# Altium footprint library SOP_20.PcbLib: 3 footprints
Each footprint in its own frame and in the unit in brackets; x right, y up, seen from the top. Pads: shape width x height; smd on the part's side, far side on the other; paste and mask are expansions set on the pad; w line width, h text height; cw(c..) or ccw(c..) is an arc to the next point about the centre after c.
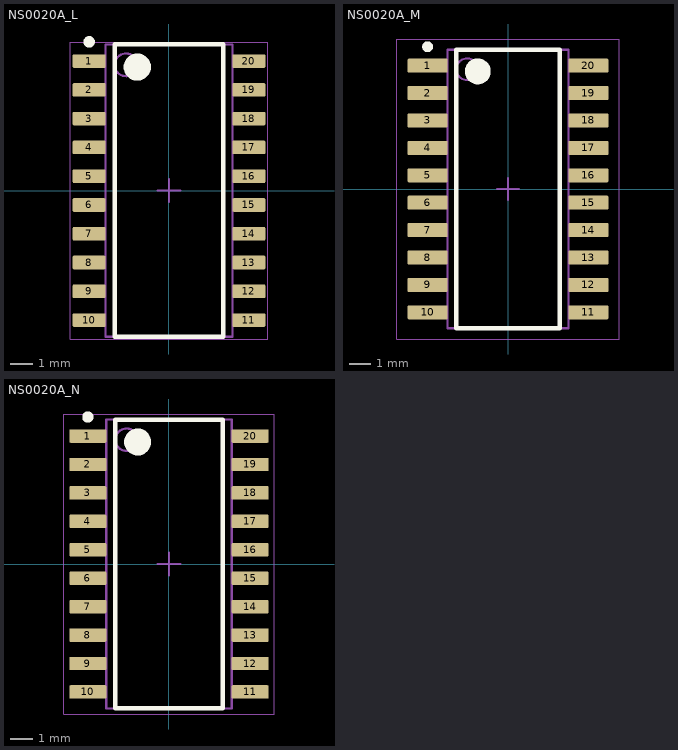
[diagram p0: the footprints below, top view; thin cyan lines are the x and y axes]

## NS0020A_L [mm] "SOIC,20-Leads,Body 12.9x5.6mm,Pitch 1.27mm,IPC High Density"
height 2
pads (20):
  rrect17% 1.45x0.6 smd: 1(-3.525,5.715) 2(-3.525,4.445) 3(-3.525,3.175) 4(-3.525,1.905) 5(-3.525,0.635) 6(-3.525,-0.635) 7(-3.525,-1.905) 8(-3.525,-3.175) 9(-3.525,-4.445) 10(-3.525,-5.715) 11(3.525,-5.715) 12(3.525,-4.445) 13(3.525,-3.175) 14(3.525,-1.905) 15(3.525,-0.635) 16(3.525,0.635) 17(3.525,1.905) 18(3.525,3.175) 19(3.525,4.445) 20(3.525,5.715)
Top Overlay:
  circle w0.6: c-1.4,5.45 r0.3
  circle w0.25: c-3.525,6.565 r0.125
  lines w0.2: -2.4,-6.45 2.4,-6.45 2.4,6.45 -2.4,6.45 -2.4,-6.45
Mechanical 1:
  text ".Designator" at -1.524,-0.508 h1.02
Mechanical 13:
  circle w0.1: c-1.9,5.55 r0.5
  lines w0.1: -2.8,-6.45 2.8,-6.45 2.8,6.45 -2.8,6.45 -2.8,-6.45
Mechanical 15:
  lines w0.05: -4.35,-6.55 4.35,-6.55 4.35,6.55 -4.35,6.55 -4.35,-6.55
  lines w0.1: -0.5,0 0.5,0 ; 0,-0.5 0,0.5
3D body: height 2, standoff 0.05, extent -2.8,-6.45 2.8,6.45

## NS0020A_M [mm] "SOIC,20-Leads,Body 12.9x5.6mm,Pitch 1.27mm,IPC Low Density"
height 2
pads (20):
  rrect15% 1.85x0.65 smd: 1(-3.725,5.715) 2(-3.725,4.445) 3(-3.725,3.175) 4(-3.725,1.905) 5(-3.725,0.635) 6(-3.725,-0.635) 7(-3.725,-1.905) 8(-3.725,-3.175) 9(-3.725,-4.445) 10(-3.725,-5.715) 11(3.725,-5.715) 12(3.725,-4.445) 13(3.725,-3.175) 14(3.725,-1.905) 15(3.725,-0.635) 16(3.725,0.635) 17(3.725,1.905) 18(3.725,3.175) 19(3.725,4.445) 20(3.725,5.715)
Top Overlay:
  circle w0.6: c-1.4,5.45 r0.3
  circle w0.25: c-3.725,6.59 r0.125
  lines w0.2: -2.4,-6.45 2.4,-6.45 2.4,6.45 -2.4,6.45 -2.4,-6.45
Mechanical 1:
  text ".Designator" at -1.524,-0.508 h1.02
Mechanical 13:
  circle w0.1: c-1.9,5.55 r0.5
  lines w0.1: -2.8,-6.45 2.8,-6.45 2.8,6.45 -2.8,6.45 -2.8,-6.45
Mechanical 15:
  lines w0.05: -5.15,-6.95 5.15,-6.95 5.15,6.95 -5.15,6.95 -5.15,-6.95
  lines w0.1: -0.5,0 0.5,0 ; 0,-0.5 0,0.5
3D body: height 2, standoff 0.05, extent -2.8,-6.45 2.8,6.45

## NS0020A_N [mm] "SOIC,20-Leads,Body 12.9x5.6mm,Pitch 1.27mm,IPC Medium Density"
height 2
pads (20):
  rrect17% 1.65x0.6 smd: 1(-3.625,5.715) 2(-3.625,4.445) 3(-3.625,3.175) 4(-3.625,1.905) 5(-3.625,0.635) 6(-3.625,-0.635) 7(-3.625,-1.905) 8(-3.625,-3.175) 9(-3.625,-4.445) 10(-3.625,-5.715) 11(3.625,-5.715) 12(3.625,-4.445) 13(3.625,-3.175) 14(3.625,-1.905) 15(3.625,-0.635) 16(3.625,0.635) 17(3.625,1.905) 18(3.625,3.175) 19(3.625,4.445) 20(3.625,5.715)
Top Overlay:
  circle w0.6: c-1.4,5.45 r0.3
  circle w0.25: c-3.625,6.565 r0.125
  lines w0.2: -2.4,-6.45 2.4,-6.45 2.4,6.45 -2.4,6.45 -2.4,-6.45
Mechanical 1:
  text ".Designator" at -1.524,-0.508 h1.02
Mechanical 13:
  circle w0.1: c-1.9,5.55 r0.5
  lines w0.1: -2.8,-6.45 2.8,-6.45 2.8,6.45 -2.8,6.45 -2.8,-6.45
Mechanical 15:
  lines w0.05: -4.7,-6.7 4.7,-6.7 4.7,6.7 -4.7,6.7 -4.7,-6.7
  lines w0.1: -0.5,0 0.5,0 ; 0,-0.5 0,0.5
3D body: height 2, standoff 0.05, extent -2.8,-6.45 2.8,6.45